# Altium schematic symbol library LPHS-08-16-L-VP1-GP.SchLib: 1 symbol
Pins are listed as number, name and electrical type; pins without a type are passive.

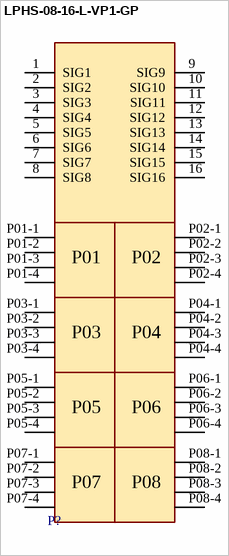
[diagram p0: symbol LPHS-08-16-L-VP1-GP]

## LPHS-08-16-L-VP1-GP
designator P?  (value not drawn)
pins: 1 SIG1, 2 SIG2, 3 SIG3, 4 SIG4, 5 SIG5, 6 SIG6, 7 SIG7, 8 SIG8, 9 SIG9, 10 SIG10, 11 SIG11, 12 SIG12, 13 SIG13, 14 SIG14, 15 SIG15, 16 SIG16, P01-1 P01, P01-2 P01, P01-3 P01, P01-4 P01, P02-1, P02-2, P02-3, P02-4, P03-1, P03-2, P03-3, P03-4, P04-1, P04-2, P04-3, P04-4, P05-1, P05-2, P05-3, P05-4, P06-1, P06-2, P06-3, P06-4, P07-1 P07, P07-2 P07, P07-3 P07, P07-4 P07, P08-1, P08-2, P08-3, P08-4
text: P02; P03; P04; P05; P06; P08